# EAGLE library part ATBTLC1000-MR110CA (library circuit_tree)
IC
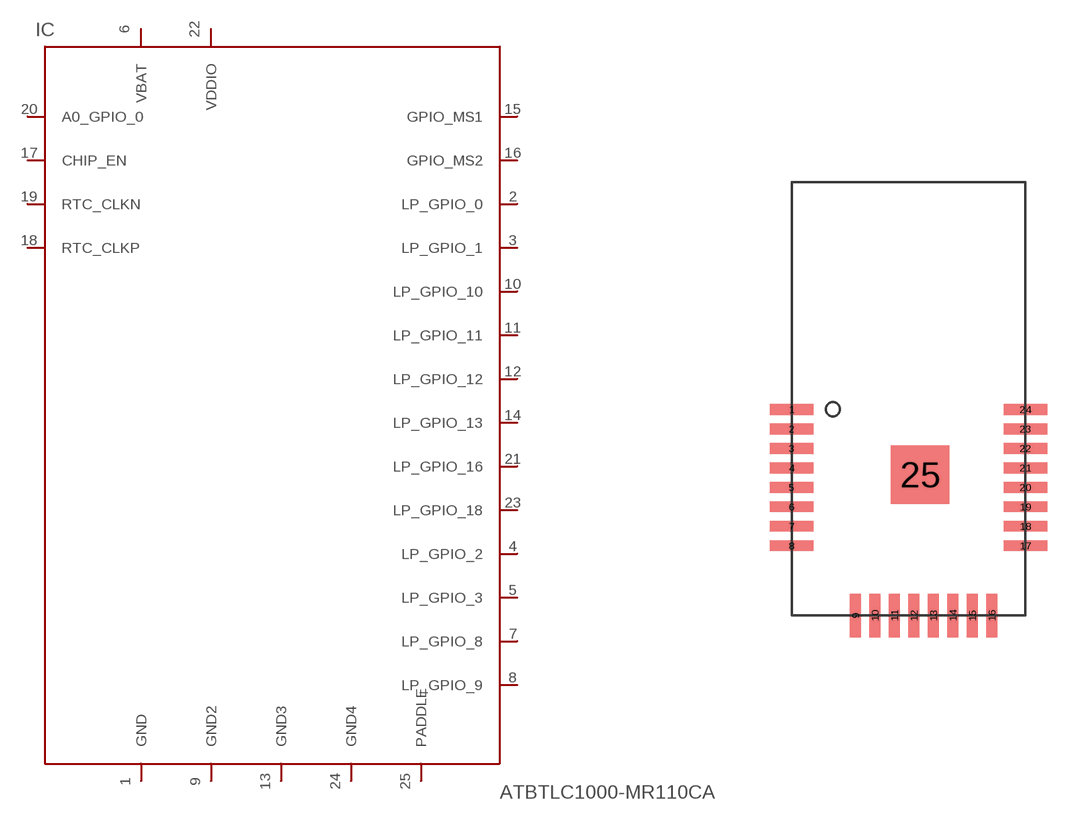
[diagram p1: symbol with the pads of ATBTLC1000-MR110CA; footprint ATBTLC1000-MR110CA]

Designator prefix IC

## ATBTLC1000-MR110CA  [ATBTLC1000-MR110CA]
1  GND  pas
2  LP_GPIO_0  pas
3  LP_GPIO_1  pas
4  LP_GPIO_2  pas
5  LP_GPIO_3  pas
6  VBAT  pas
7  LP_GPIO_8  pas
8  LP_GPIO_9  pas
9  GND2  pas
10  LP_GPIO_10  pas
11  LP_GPIO_11  pas
12  LP_GPIO_12  pas
13  GND3  pas
14  LP_GPIO_13  pas
15  GPIO_MS1  pas
16  GPIO_MS2  pas
17  CHIP_EN  pas
18  RTC_CLKP  pas
19  RTC_CLKN  pas
20  A0_GPIO_0  pas
21  LP_GPIO_16  pas
22  VDDIO  pas
23  LP_GPIO_18  pas
24  GND4  pas
25  PADDLE  pas

## Footprint ATBTLC1000-MR110CA (pad centres in mm)
smd 2 x 0.5: 1 -7.2,2.7; 2 -7.2,1.8; 3 -7.2,0.9; 4 -7.2,0; 5 -7.2,-0.9; 6 -7.2,-1.8; 7 -7.2,-2.7; 8 -7.2,-3.6; 17 3.6,-3.6; 18 3.6,-2.7; 19 3.6,-1.8; 20 3.6,-0.9; 21 3.6,0; 22 3.6,0.9; 23 3.6,1.8; 24 3.6,2.7
smd 0.5 x 2: 9 -4.255,-6.824; 10 -3.355,-6.824; 11 -2.455,-6.824; 12 -1.555,-6.824; 13 -0.655,-6.824; 14 0.245,-6.824; 15 1.145,-6.824; 16 2.045,-6.824
smd 2.7 x 2.7: 25 -1.261,-0.328